# Altium footprint library LD_EDFA.PcbLib: 280 footprints (part 11 of 18)
Each footprint in its own frame and in the unit in brackets; x right, y up, seen from the top. Pads: shape width x height; smd on the part's side, far side on the other; paste and mask are expansions set on the pad; w line width, h text height; cw(c..) or ccw(c..) is an arc to the next point about the centre after c.
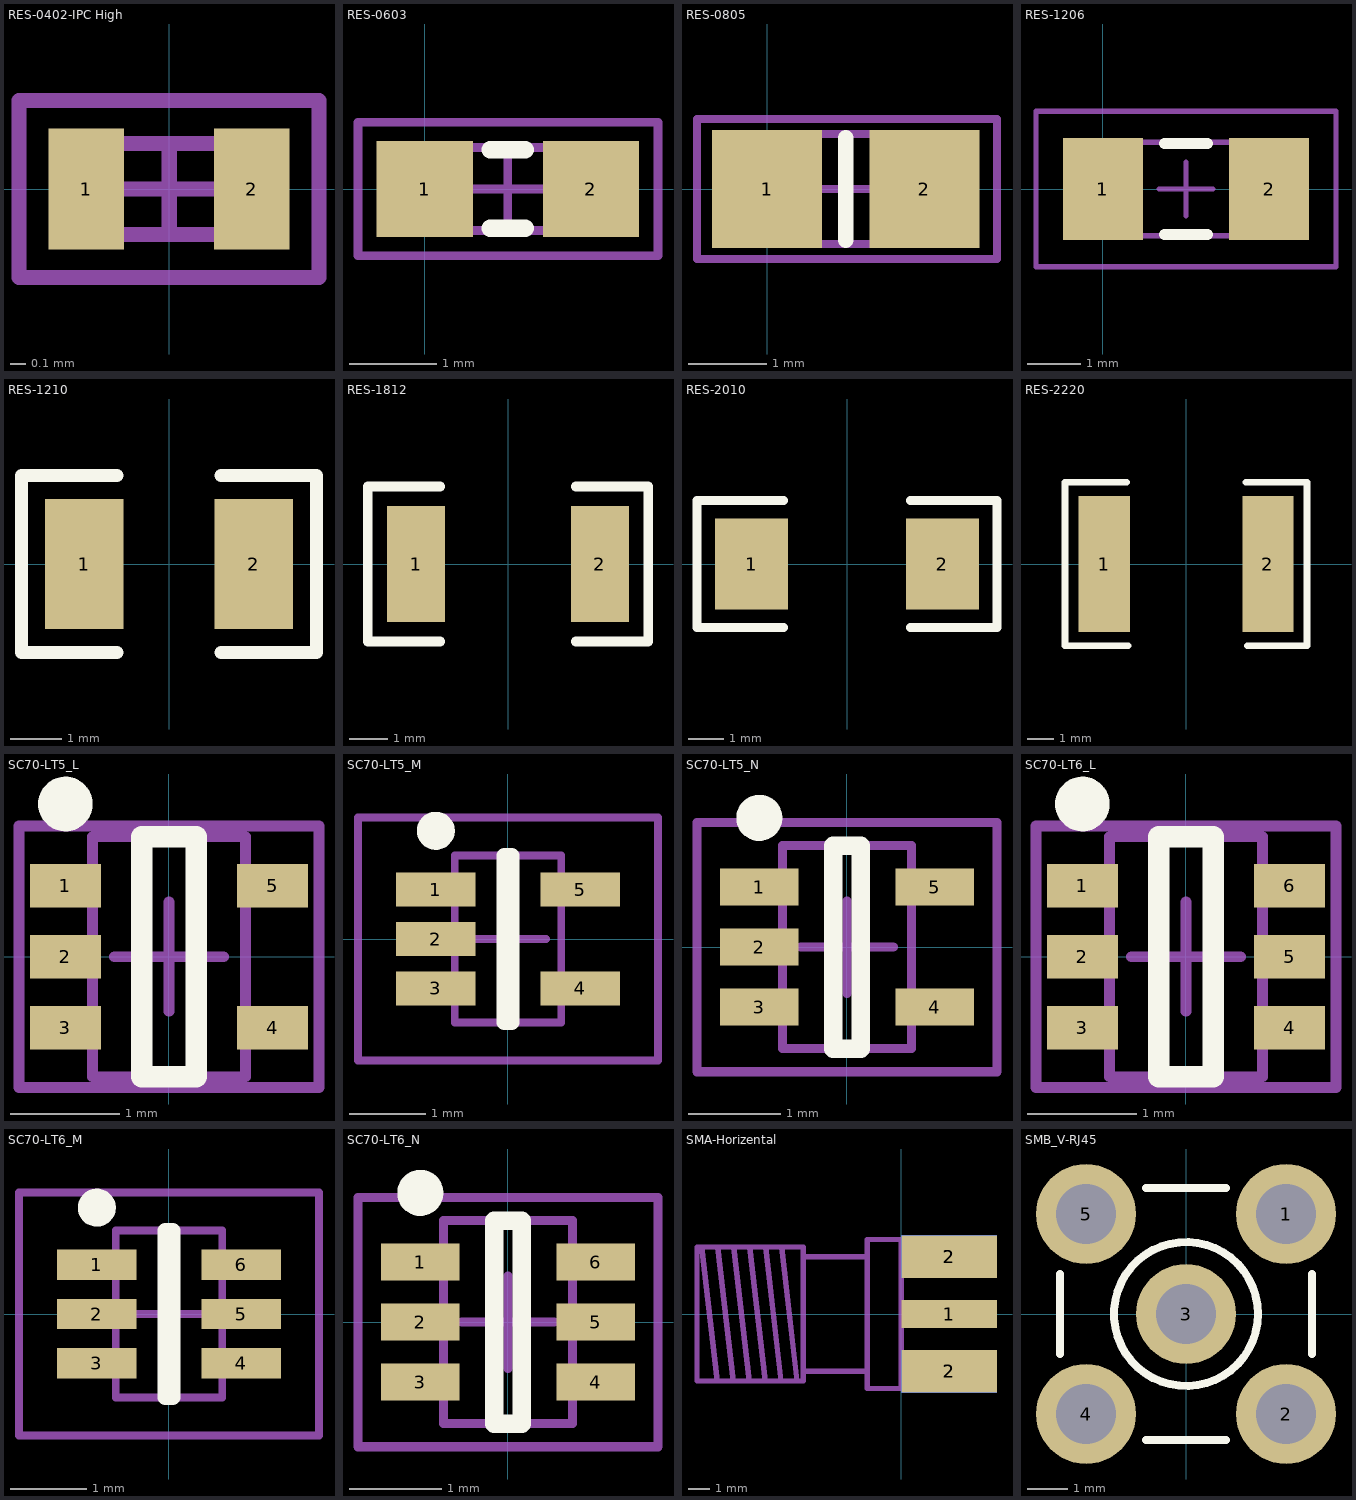
[diagram p10: the footprints below, top view; thin cyan lines are the x and y axes]

## RES-0402-IPC High [mm]
pads (2):
  rect 0.5x0.8 smd: 1(-0.546,0) 2(0.546,0)
Mechanical 13:
  lines w0.1: -0.549,-0.3 -0.549,0.3 0.552,0.3 0.552,-0.3 -0.549,-0.3
Mechanical 15:
  lines w0.1: -0.299,0 0.302,0 ; 0.002,-0.3 0.002,0.3 ; -0.991,-0.584 -0.991,0.584 0.991,0.584 0.991,-0.584 -0.991,-0.584
3D body: height 0.4, standoff 0, extent -0.549,-0.3 0.551,0.3

## RES-0603 [mm]
pads (2):
  rect 1.1x1.1 smd: 1(0,0) 2(1.9,0)
Top Overlay:
  lines w0.2: 0.75,-0.45 1.15,-0.45 ; 0.75,0.45 1.15,0.45
Mechanical 13:
  lines w0.1: 0.1,-0.475 0.1,0.475 1.8,0.475 1.8,-0.475 0.1,-0.475
Mechanical 15:
  lines w0.1: 0.475,0 1.425,0 ; 0.95,-0.475 0.95,0.475 ; -0.762,-0.762 -0.762,0.762 2.667,0.762 2.667,-0.762 -0.762,-0.762
3D body: height 0.6, standoff 0, extent 0.1,-0.475 1.8,0.475

## RES-0805 [mm]
pads (2):
  rect 1.4x1.5 smd: 1(0,0) 2(2,0)
Top Overlay:
  lines w0.2: 1,-0.65 1,0.65
Mechanical 13:
  lines w0.1: -0.075,-0.7 -0.075,0.7 2.075,0.7 2.075,-0.7 -0.075,-0.7
Mechanical 15:
  lines w0.1: 0.5,0 1.5,0 ; 1,-0.5 1,0.5 ; -0.889,-0.889 -0.889,0.889 2.921,0.889 2.921,-0.889 -0.889,-0.889
3D body: height 0.65, standoff 0, extent -0.075,-0.7 2.075,0.7

## RES-1206 [mm]
pads (2):
  rect 1.5x1.9 smd: 1(0,0) 2(3.1,0)
Top Overlay:
  lines w0.2: 1.15,-0.85 1.95,-0.85 ; 1.15,0.85 1.95,0.85
Mechanical 13:
  lines w0.1: -0.125,-0.875 -0.125,0.875 3.225,0.875 3.225,-0.875 -0.125,-0.875
Mechanical 15:
  lines w0.1: 1.05,0 2.05,0 ; 1.55,-0.5 1.55,0.5 ; -1.25,-1.45 -1.25,1.45 4.35,1.45 4.35,-1.45 -1.25,-1.45
3D body: height 0.71, standoff 0, extent -0.125,-0.875 3.225,0.875

## RES-1210 [mil]
pads (2):
  rect 60x100 smd: 1(-65,0) 2(65,0)
Top Overlay:
  lines w10: -40,-68 -113,-68 -113,68 -40,68 ; 40,-68 113,-68 113,68 40,68

## RES-1812 [mil]
pads (2):
  rect 60x120 smd: 1(-95,0) 2(95,0)
Top Overlay:
  lines w10: -70,-80 -145,-80 -145,80 -70,80 ; 70,-80 145,-80 145,80 70,80

## RES-2010 [mil]
pads (2):
  rect 80x100 smd: 1(-105,0) 2(105,0)
Top Overlay:
  lines w10: -70,-70 -165,-70 -165,70 -70,70 ; 70,-70 165,-70 165,70 70,70

## RES-2220 [mil]
pads (2):
  rect 75x200 smd: 1(-120,0) 2(120,0)
Top Overlay:
  lines w10: -87.5,120 -177.5,120 -177.5,-120 -85,-120 ; 87.5,120 177.5,120 177.5,-120 90,-120

## SC70-LT5_L [mm] "SOT353, 5-Leads, Body 2x1.3mm, Pitch 0.65mm, Lead Span 2.1mm, IPC High Density"
height 1.1
pads (5):
  rect 0.65x0.4 smd: 1(-0.95,0.65) 2(-0.95,0) 3(-0.95,-0.65) 4(0.95,-0.65) 5(0.95,0.65)
Top Overlay:
  circle w0.25: c-0.95,1.4 r0.125
  lines w0.2: -0.25,-1.1 -0.25,1.1 0.25,1.1 0.25,-1.1 -0.25,-1.1
Mechanical 13:
  lines w0.1: -0.7,-1.1 0.7,-1.1 0.7,1.1 -0.7,1.1 -0.7,-1.1
Mechanical 15:
  lines w0.1: -0.5,0 0.5,0 ; 0,-0.5 0,0.5 ; -1.375,-1.2 1.375,-1.2 1.375,1.2 -1.375,1.2 -1.375,-1.2
3D body: height 1.1, standoff 0, extent -0.7,-1.1 0.7,1.1

## SC70-LT5_M [mm] "SOT353, 5-Leads, Body 2x1.3mm, Pitch 0.65mm, Lead Span 2.1mm, IPC Low Density"
height 1.1
pads (5):
  rect 1.05x0.45 smd: 1(-0.95,0.65) 2(-0.95,0) 3(-0.95,-0.65) 4(0.95,-0.65) 5(0.95,0.65)
Top Overlay:
  circle w0.25: c-0.95,1.425 r0.125
  lines w0.2: -0.05,-1.1 -0.05,1.1 0.05,1.1 0.05,-1.1 -0.05,-1.1
Mechanical 13:
  lines w0.1: -0.7,-1.1 0.7,-1.1 0.7,1.1 -0.7,1.1 -0.7,-1.1
Mechanical 15:
  lines w0.1: -0.5,0 0.5,0 ; 0,-0.5 0,0.5 ; -1.975,-1.6 1.975,-1.6 1.975,1.6 -1.975,1.6 -1.975,-1.6
3D body: height 1.1, standoff 0, extent -0.7,-1.1 0.7,1.1

## SC70-LT5_N [mm] "SOT353, 5-Leads, Body 2x1.3mm, Pitch 0.65mm, Lead Span 2.1mm, IPC Medium Density"
height 1.1
pads (5):
  rect 0.85x0.4 smd: 1(-0.95,0.65) 2(-0.95,0) 3(-0.95,-0.65) 4(0.95,-0.65) 5(0.95,0.65)
Top Overlay:
  circle w0.25: c-0.95,1.4 r0.125
  lines w0.2: -0.15,-1.1 0.15,-1.1 0.15,1.1 -0.15,1.1 -0.15,-1.1
Mechanical 13:
  lines w0.1: -0.7,-1.1 -0.7,1.1 0.7,1.1 0.7,-1.1 -0.7,-1.1
Mechanical 15:
  lines w0.1: -0.5,0 0.5,0 ; 0,-0.5 0,0.5 ; -1.625,-1.35 -1.625,1.35 1.625,1.35 1.625,-1.35 -1.625,-1.35
3D body: height 1.1, standoff 0, extent -0.7,-1.1 0.7,1.1

## SC70-LT6_L [mm] "SOT363, 6-Leads, Body 2x1.3mm, Pitch 0.65mm, Lead Span 2.1mm, IPC High Density"
height 1.1
pads (6):
  rect 0.65x0.4 smd: 1(-0.95,0.65) 2(-0.95,0) 3(-0.95,-0.65) 4(0.95,-0.65) 5(0.95,0) 6(0.95,0.65)
Top Overlay:
  circle w0.25: c-0.95,1.4 r0.125
  lines w0.2: -0.25,-1.1 -0.25,1.1 0.25,1.1 0.25,-1.1 -0.25,-1.1
Mechanical 13:
  lines w0.1: -0.7,-1.1 0.7,-1.1 0.7,1.1 -0.7,1.1 -0.7,-1.1
Mechanical 15:
  lines w0.1: -0.5,0 0.5,0 ; 0,-0.5 0,0.5 ; -1.375,-1.2 1.375,-1.2 1.375,1.2 -1.375,1.2 -1.375,-1.2
3D body: height 1.1, standoff 0, extent -0.7,-1.1 0.7,1.1

## SC70-LT6_M [mm] "SOT363, 6-Leads, Body 2x1.3mm, Pitch 0.65mm, Lead Span 2.1mm, IPC Low Density"
height 1.1
pads (6):
  rect 1.05x0.4 smd: 1(-0.95,0.65) 2(-0.95,0) 3(-0.95,-0.65) 4(0.95,-0.65) 5(0.95,0) 6(0.95,0.65)
Top Overlay:
  circle w0.25: c-0.95,1.4 r0.125
  lines w0.2: -0.05,-1.1 0.05,-1.1 0.05,1.1 -0.05,1.1 -0.05,-1.1
Mechanical 13:
  lines w0.1: -0.7,-1.1 -0.7,1.1 0.7,1.1 0.7,-1.1 -0.7,-1.1
Mechanical 15:
  lines w0.1: -0.5,0 0.5,0 ; 0,-0.5 0,0.5 ; -1.975,-1.6 -1.975,1.6 1.975,1.6 1.975,-1.6 -1.975,-1.6
3D body: height 1.1, standoff 0, extent -0.7,-1.1 0.7,1.1

## SC70-LT6_N [mm] "SOT363, 6-Leads, Body 2x1.3mm, Pitch 0.65mm, Lead Span 2.1mm, IPC Medium Density"
height 1.1
pads (6):
  rect 0.85x0.4 smd: 1(-0.95,0.65) 2(-0.95,0) 3(-0.95,-0.65) 4(0.95,-0.65) 5(0.95,0) 6(0.95,0.65)
Top Overlay:
  circle w0.25: c-0.95,1.4 r0.125
  lines w0.2: -0.15,-1.1 0.15,-1.1 0.15,1.1 -0.15,1.1 -0.15,-1.1
Mechanical 13:
  lines w0.1: -0.7,-1.1 -0.7,1.1 0.7,1.1 0.7,-1.1 -0.7,-1.1
Mechanical 15:
  lines w0.1: -0.5,0 0.5,0 ; 0,-0.5 0,0.5 ; -1.625,-1.35 -1.625,1.35 1.625,1.35 1.625,-1.35 -1.625,-1.35
3D body: height 1.1, standoff 0, extent -0.7,-1.1 0.7,1.1

## SMA-Horizental [mm] "Horizental mount SMA."
pads (5):
  rect 4.5x1.3 smd: 1(2.25,0)
  rect 4.5x2 smd: 2(2.25,-2.7) 2(2.25,2.7)
  rect 4.5x2 smd far side: 2(2.25,-2.7) 2(2.25,2.7)
Mechanical 13:
  lines w0.254: -9.375,3.125 -8.65,-3.15 ; -8.625,3.125 -7.9,-3.15 ; -7.875,3.125 -7.15,-3.15 ; -7.125,3.125 -6.4,-3.15 ; -6.375,3.125 -5.65,-3.15 ; -5.625,3.125 -4.9,-3.15 ; -4.6,-2.7 -1.6,-2.7 ; -4.6,2.7 -1.6,2.7 ; -4.6,3.125 -4.625,3.15 -9.6,3.15 -9.6,-3.15 -4.6,-3.15 -4.6,3.15 ; 0,-3.04 4,-3.04 4,-2.04 0,-2.04 ; 0,-0.45 4,-0.45 4,0.45 0,0.45 ; 0,2.04 4,2.04 4,3.04 0,3.04 ; -1.6,-3.5 -1.6,3.5 0,3.5 0,-3.5 -1.6,-3.5

## SMB_V-RJ45 [mm] "Connector; SMB Straight"
pads (5):
  round 2.5 hole 1.5: 1(2.5,2.5) 2(2.5,-2.5) 3(0,0) 4(-2.5,-2.5) 5(-2.5,2.5)
Top Overlay:
  circle w0.2: c0,0 r1.8
  lines w0.2: -3.15,-1 -3.15,1 ; -1,-3.15 1,-3.15 ; -1,3.15 1,3.15 ; 3.15,-1 3.15,1
Mechanical 1:
  circle w0.025: c0,0 r0.2
  circle w0.025: c0,0 r1.05
  circle w0.025: c0,0 r1.8